# Altium schematic symbol library LED BLINKING.SchLib: 7 symbols
Pins are listed as number, name and electrical type; pins without a type are passive.

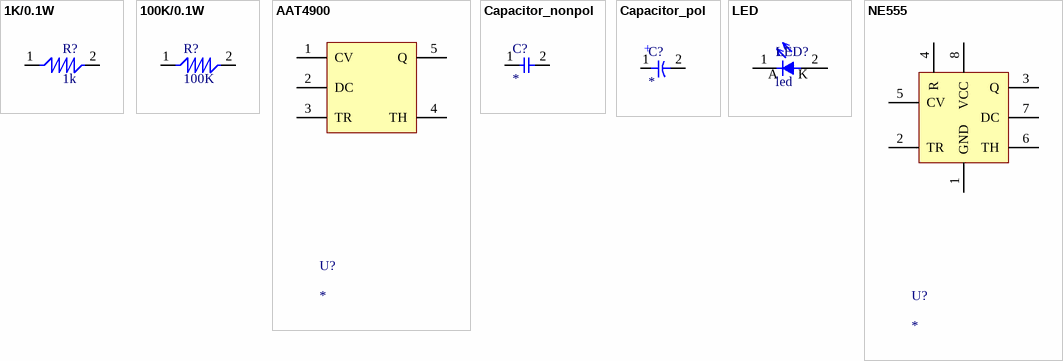
[diagram p0: symbols 1K/0.1W to NE555]

## 1K/0.1W
designator R?, comment 1k
1 kOhms ±1% 0.1W, 1/10W Chip Resistor 0603 (1608 Metric) Automotive AEC-Q200 Thick Film; Part number: RMCF0603FT1K00; Manufacturer: Stackpole Electronics Inc
footprint restsror
pins: 1, 2

## 100K/0.1W
designator R?, comment 100K
footprint restsror
pins: 1, 2

## AAT4900
designator U?
footprint AAT4900 (SOT23-5)
pins: 1 CV, 2 DC, 3 TR, 4 TH, 5 Q

## Capacitor_nonpol
designator C?
footprint CAPACITOR
pins: 1, 2

## Capacitor_pol
designator C?
Package: 0402; Parameter 2: *
footprint CAPACITOR
pins: 1 +, 2 -

## LED
designator LED?, comment led
footprint LED
pins: 1 A(+), 2 K(-)
text: A; K

## NE555
designator U?
footprint IC (soic-8)
pins: 1 GND, 2 TR, 3 Q, 4 R, 5 CV, 6 TH, 7 DC, 8 VCC